# EAGLE library part ALTERA_EPM7128SLC84-15N (library Upverter Library)
CPLD, MAX7000, 128 MACROCELLS, 84PLCC
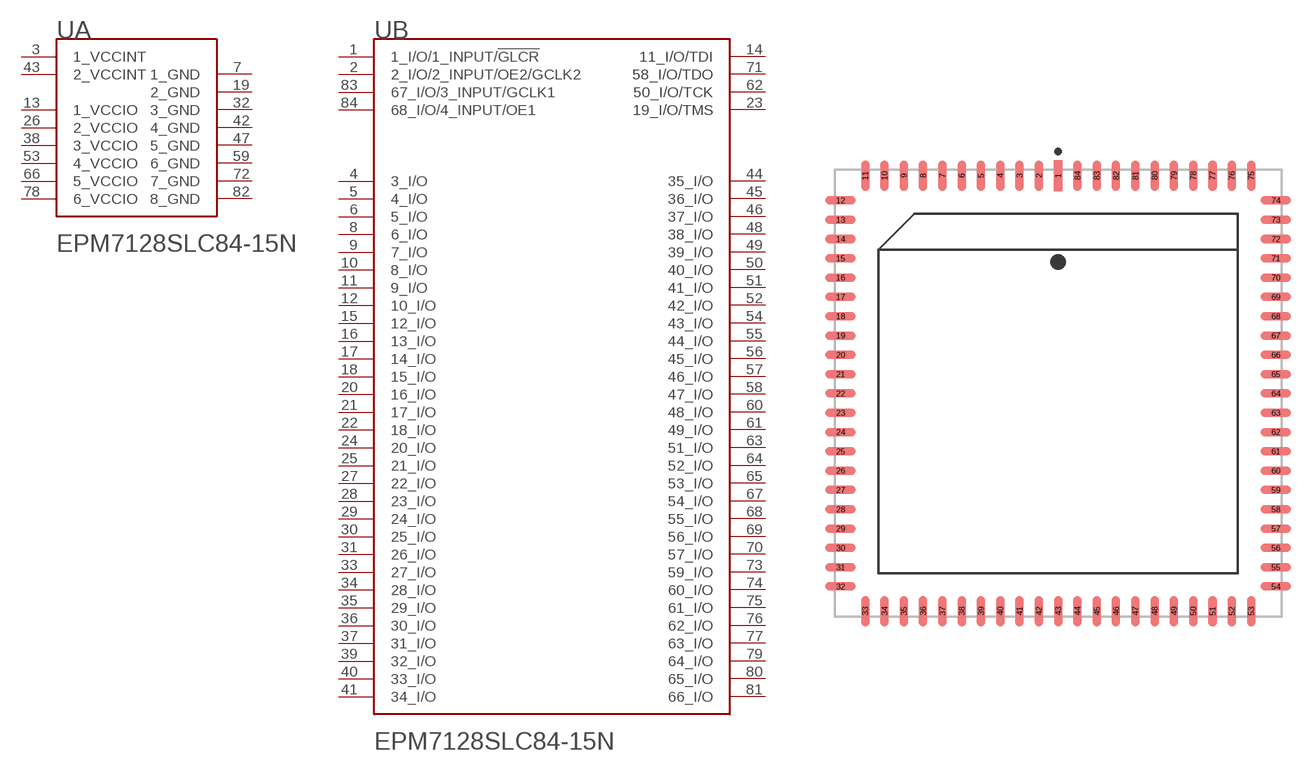
[diagram p0: symbol with the pads of ALTERA_EPM7128SLC84-15N_0; footprint ALTERA_EPM7128SLC84-15N_0]

Designator prefix U; gates A=ALTERA_EPM7128SLC84-15N_0_0 B=ALTERA_EPM7128SLC84-15N_0_1

## ALTERA_EPM7128SLC84-15NALTERA_EPM7128SLC84-15N_0_0 (MF: Altera; MPN: EPM7128SLC84-15N; ambient_temperature_range_high: +70°C; ambient_temperature_range_low: 0°C; centroid_not_specified: No; datasheet: https://www.intel.com/content/dam/altera-www/global/en_US/pdfs/literature/ds/archives/m7000.pdf; device_class_L1: Integrated Circuits (ICs); device_class_L2: Embedded Processors and Controllers; device_class_L3: CPLDs - Complex Programming Logic Devices; digikey_description: IC CPLD 128MC 15NS 84PLCC; digikey_part_number: 544-2034-ND; footprint_parameters_0: {"fp_type":"PLCC","params":{"N1":{"nom":21,"long name":"Leads on long side","min":null,"max":null,"short name":"N1","type":"count"},"N2":{"nom":21,"long name":"Leads on wide side","min":null,"max":null,"short name":"N2","type":"count"},"A":{"nom":4368799,"long name":"Height","min":4191000,"max":4572000,"short name":"A","type":"measurement"},"A1":{"nom":false,"long name":"Package clearance","min":508000,"max":false,"short name":"A1","type":"measurement"},"A2":{"nom":3810000,"long name":"Package height","min":false,"max":false,"short name":"A2","type":"measurement"},"E":{"nom":30226000,"long name":"Width /w leads","min":30099000,"max":30353000,"short name":"E","type":"measurement"},"E1":{"nom":29311599,"long name":"Package width","min":29209999,"max":29413199,"short name":"E1","type":"measurement"},"D":{"nom":30226000,"long name":"Length /w leads","min":30099000,"max":30353000,"short name":"D","type":"measurement"},"D1":{"nom":29311599,"long name":"Package length","min":29209999,"max":29413199,"short name":"D1","type":"measurement"},"B":{"nom":false,"long name":"Lead width","min":330199,"max":533400,"short name":"B","type":"measurement"},"C":{"nom":203200,"long name":"Lead thickness","min":false,"max":false,"short name":"C","type":"measurement"},"L":{"nom":2032000,"long name":"Lead foot length","min":false,"max":false,"short name":"L","type":"measurement"},"e":{"nom":1270000,"long name":"Lead pitch","min":null,"max":null,"short name":"e","type":"measurement"},"offset x":{"nom":0,"long name":"X Center offset","min":null,"max":null,"short name":"offset x","type":"measurement"},"offset y":{"nom":0,"long name":"Y Center offset","min":null,"max":null,"short name":"offset y","type":"measurement"},"LS":{"default":"Rounded rectangle","long name":"Land shape","type":"multichoice","short name":"LS"},"LS1":{"default":"Rectangle","long name":"Land shape (Pin 1)","type":"multichoice","short name":"LS1"},"solder heel":{"nom":150000,"long name":"Solder fillet (heel)","min":null,"max":null,"short name":"solder heel","type":"fixedmeasurement"},"solder toe":{"nom":-300000,"long name":"Solder fillet (toe)","min":null,"max":null,"short name":"solder toe","type":"fixedmeasurement"},"solder side":{"nom":10000,"long name":"Solder fillet (side)","min":null,"max":null,"short name":"solder side","type":"fixedmeasurement"},"courtyard":{"nom":100000,"long name":"Courtyard","min":null,"max":null,"short name":"courtyard","type":"fixedmeasurement"},"SF":{"default":"C","long name":"Packing level","type":"multichoiceparent","short name":"SF","help":"http://support.upverter.com/customer/portal/articles/978783-what-is-a-footprint-packing-level","children":["solder heel","solder toe","solder side","courtyard"]}}}; footprint_url: https://www.intel.com/content/dam/altera-www/global/en_US/pdfs/literature/ds/pkgds.pdf; frequency: 100MHz; height: 0.18inch; ipc_land_pattern_name: PLCC127P3023X3023X437-84; lead_free: yes; max_junction_temp: +90°C; max_supply_voltage: 5.25V; memory_type: EEPROM; mfg_package_ident: PLCC-84; mfg_package_ident_date: 0; mfg_package_ident_rev: 0; min_supply_voltage: 4.75V; mouser_part_number: 989-EPM7128SLC84-15N; number_of_I/Os: 68; number_of_gates: 2500; number_of_logic_blocks: 8; number_of_logic_elements_cells: 8; number_of_macrocells: 128; obsolete_part: true; package: PLCC84; pin_0_1_49_inside_edge: clock; prefix: U; propagation_delay: 15ns; rohs: yes; speed_grade: 15; standoff_height: 0.02inch; verification_version: 0.0.0.1)  [ALTERA_EPM7128SLC84-15N_0]
1  B:1_I/O/1_INPUT/!GLCR!
2  B:2_I/O/2_INPUT/OE2/GCLK2
3  A:1_VCCINT  pwr
4  B:3_I/O
5  B:4_I/O
6  B:5_I/O
7  A:1_GND  pwr
8  B:6_I/O
9  B:7_I/O
10  B:8_I/O
11  B:9_I/O
12  B:10_I/O
13  A:1_VCCIO  pwr
14  B:11_I/O/TDI
15  B:12_I/O
16  B:13_I/O
17  B:14_I/O
18  B:15_I/O
19  A:2_GND  pwr
20  B:16_I/O
21  B:17_I/O
22  B:18_I/O
23  B:19_I/O/TMS
24  B:20_I/O
25  B:21_I/O
26  A:2_VCCIO  pwr
27  B:22_I/O
28  B:23_I/O
29  B:24_I/O
30  B:25_I/O
31  B:26_I/O
32  A:3_GND  pwr
33  B:27_I/O
34  B:28_I/O
35  B:29_I/O
36  B:30_I/O
37  B:31_I/O
38  A:3_VCCIO  pwr
39  B:32_I/O
40  B:33_I/O
41  B:34_I/O
42  A:4_GND  pwr
43  A:2_VCCINT  pwr
44  B:35_I/O
45  B:36_I/O
46  B:37_I/O
47  A:5_GND  pwr
48  B:38_I/O
49  B:39_I/O
50  B:40_I/O
51  B:41_I/O
52  B:42_I/O
53  A:4_VCCIO  pwr
54  B:43_I/O
55  B:44_I/O
56  B:45_I/O
57  B:46_I/O
58  B:47_I/O
59  A:6_GND  pwr
60  B:48_I/O
61  B:49_I/O
62  B:50_I/O/TCK
63  B:51_I/O
64  B:52_I/O
65  B:53_I/O
66  A:5_VCCIO  pwr
67  B:54_I/O
68  B:55_I/O
69  B:56_I/O
70  B:57_I/O
71  B:58_I/O/TDO
72  A:7_GND  pwr
73  B:59_I/O
74  B:60_I/O
75  B:61_I/O
76  B:62_I/O
77  B:63_I/O
78  A:6_VCCIO  pwr
79  B:64_I/O
80  B:65_I/O
81  B:66_I/O
82  A:8_GND  pwr
83  B:67_I/O/3_INPUT/GCLK1
84  B:68_I/O/4_INPUT/OE1

## Footprint ALTERA_EPM7128SLC84-15N_0 (pad centres in mm)
CPLD, MAX7000, 128 MACROCELLS, 84PLCC
smd 0.565 x 2.019: 1 0,14.322; 2 -1.27,14.322; 3 -2.54,14.322; 4 -3.81,14.322; 5 -5.08,14.322; 6 -6.35,14.322; 7 -7.62,14.322; 8 -8.89,14.322; 9 -10.16,14.322; 10 -11.43,14.322; 11 -12.7,14.322; 33 -12.7,-14.322; 34 -11.43,-14.322; 35 -10.16,-14.322; 36 -8.89,-14.322; 37 -7.62,-14.322; 38 -6.35,-14.322; 39 -5.08,-14.322; 40 -3.81,-14.322; 41 -2.54,-14.322; 42 -1.27,-14.322; 43 0,-14.322; 44 1.27,-14.322; 45 2.54,-14.322; 46 3.81,-14.322; 47 5.08,-14.322; 48 6.35,-14.322; 49 7.62,-14.322; 50 8.89,-14.322; 51 10.16,-14.322; 52 11.43,-14.322; 53 12.7,-14.322; 75 12.7,14.322; 76 11.43,14.322; 77 10.16,14.322; 78 8.89,14.322; 79 7.62,14.322; 80 6.35,14.322; 81 5.08,14.322; 82 3.81,14.322; 83 2.54,14.322; 84 1.27,14.322
smd 2.019 x 0.565: 12 -14.322,12.7; 13 -14.322,11.43; 14 -14.322,10.16; 15 -14.322,8.89; 16 -14.322,7.62; 17 -14.322,6.35; 18 -14.322,5.08; 19 -14.322,3.81; 20 -14.322,2.54; 21 -14.322,1.27; 22 -14.322,0; 23 -14.322,-1.27; 24 -14.322,-2.54; 25 -14.322,-3.81; 26 -14.322,-5.08; 27 -14.322,-6.35; 28 -14.322,-7.62; 29 -14.322,-8.89; 30 -14.322,-10.16; 31 -14.322,-11.43; 32 -14.322,-12.7; 54 14.322,-12.7; 55 14.322,-11.43; 56 14.322,-10.16; 57 14.322,-8.89; 58 14.322,-7.62; 59 14.322,-6.35; 60 14.322,-5.08; 61 14.322,-3.81; 62 14.322,-2.54; 63 14.322,-1.27; 64 14.322,0; 65 14.322,1.27; 66 14.322,2.54; 67 14.322,3.81; 68 14.322,5.08; 69 14.322,6.35; 70 14.322,7.62; 71 14.322,8.89; 72 14.322,10.16; 73 14.322,11.43; 74 14.322,12.7